# Altium schematic symbol library SMA_CONNECTOR.SchLib: 1 symbol
Pins are listed as number, name and electrical type; pins without a type are passive.

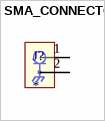
[diagram p0: symbol SMA_CONNECTOR]

## SMA_CONNECTOR
designator J?
Straight SMA Connector; MF: LPRS; MP: SMA CONNECTOR; Package: None; SnapEDA_Link: https://www.snapeda.com/parts/SMA%20CONNECTOR/LPRS/view-part/4703486/?ref=snap; Check_prices: https://www.snapeda.com/parts/SMA%20CONNECTOR/LPRS/view-part/4703486/?ref=eda; Availability: Unavailable; Value: *; Price: None
footprint LPRS_SMA_CONNECTOR
pins: 1, 2